# EAGLE library part CD74HC85M (library CD74HC85M)
IC: digital; 4bit, comparator; SMD; SO16; Series: HC
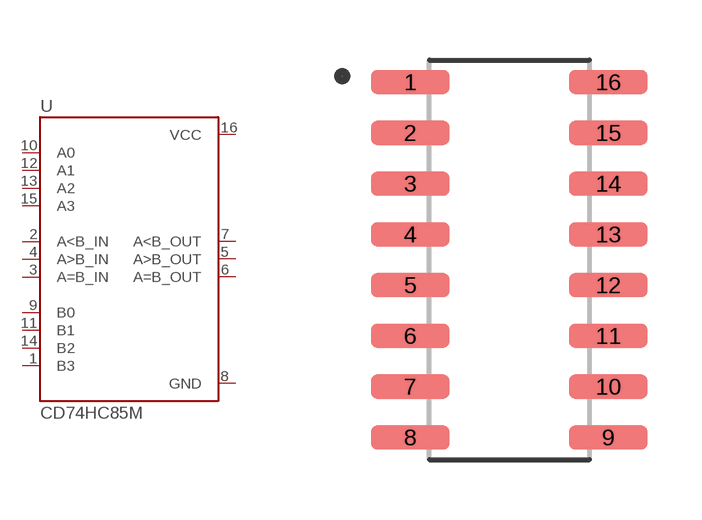
[diagram p0: symbol with the pads of SOIC12P600X175-16N; footprint SOIC12P600X175-16N]

Designator prefix U

## CD74HC85M (Availability: Unavailable; Description: IC: digital; 4bit, comparator; SMD; SO16; Series: HC; MF: Texas Instruments; MP: CD74HC85M; Package: SOIC-16 Texas Instruments; Price: None)  [SOIC12P600X175-16N]
1  B3  in
2  A<B_IN  in
3  A=B_IN  in
4  A>B_IN  in
5  A>B_OUT  out
6  A=B_OUT  out
7  A<B_OUT  out
8  GND  pwr
9  B0  in
10  A0  in
11  B1  in
12  A1  in
13  A2  in
14  B2  in
15  A3  in
16  VCC  pwr

## Footprint SOIC12P600X175-16N (pad centres in mm)
smd 1.97 x 0.6: 1 -2.475,4.445; 2 -2.475,3.175; 3 -2.475,1.905; 4 -2.475,0.635; 5 -2.475,-0.635; 6 -2.475,-1.905; 7 -2.475,-3.175; 8 -2.475,-4.445; 9 2.475,-4.445; 10 2.475,-3.175; 11 2.475,-1.905; 12 2.475,-0.635; 13 2.475,0.635; 14 2.475,1.905; 15 2.475,3.175; 16 2.475,4.445